# Altium schematic symbol library Schlib_Minicircuits.SchLib: 27 symbols
Pins are listed as number, name and electrical type; pins without a type are passive.

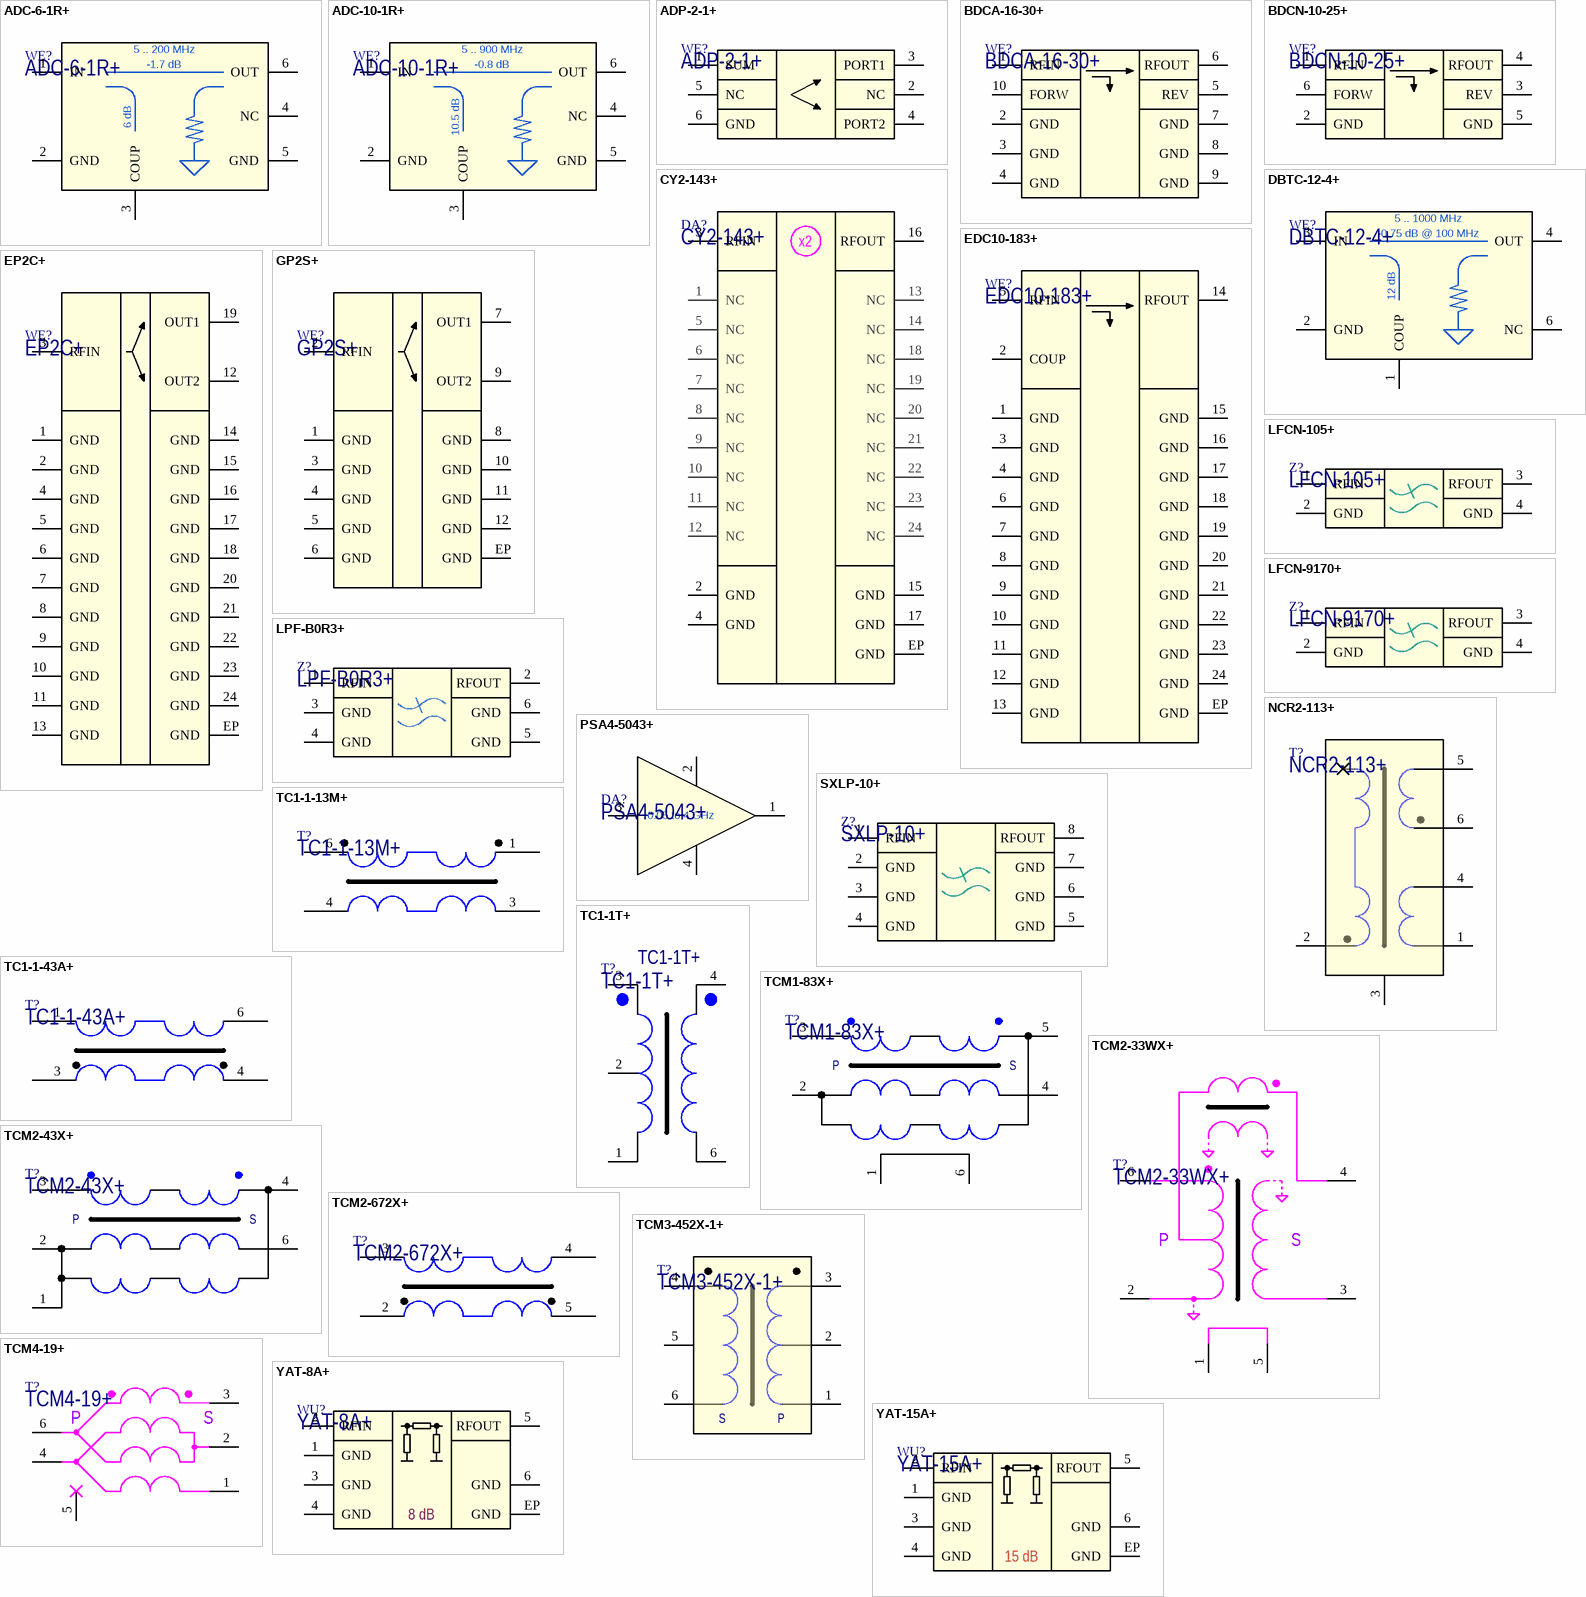
[diagram p0: symbols ADC-6-1R+ to YAT-15A+]

## ADC-6-1R+
designator WE?
50Ω Bi-Directional Coupler 5 to 200 MHz; Manufacturer: Mini-Circuits; Part Number: ADC-6-1R+; Package: CD542
footprint CD542
pins: 1 IN, 2 GND, 3 COUP, 4 NC (hiz), 5 GND, 6 OUT
text: 5 .. 200 MHz; -1.7 dB; 6 dB

## ADC-10-1R+
designator WE?
50Ω Bi-Directional Coupler 5 to 900 MHz; Manufacturer: Mini-Circuits; Part Number: ADC-10-1R+; Package: CD542
footprint CD542
pins: 1 IN, 2 GND, 3 COUP, 4 NC (hiz), 5 GND, 6 OUT
text: 5 .. 900 MHz; -0.8 dB; 10.5 dB

## ADP-2-1+
designator WE?
50Ω Power Splitter/Combiner 0.5 to 400 MHz; Manufacturer: Mini-Circuits; Part Number: ADP-2-1+; Package: CD636
pins: 1 SUM, 2 NC, 3 PORT1, 4 PORT2, 5 NC, 6 GND (power)

## BDCA-16-30+
designator WE?
50Ω 16dB Coupling DC Pass 1800 to 4200 MHz; Manufacturer: Mini-Circuits; Part Number: BDCA-16-30+; Package: DZ944
footprint DZ944
pins: 1 RFIN, 2 GND (power), 3 GND (power), 4 GND (power), 5 REV, 6 RFOUT, 7 GND (power), 8 GND (power), 9 GND (power), 10 FORW

## BDCN-10-25+
designator WE?
50Ω Bi-Directional Coupler 824 to 2525 MHz; Manufacturer: Mini-Circuits; Part Number: BDCN-10-25+; Package: FV1206-1
footprint FV1206-1
pins: 1 RFIN, 2 GND (power), 3 REV, 4 RFOUT, 5 GND (power), 6 FORW

## CY2-143+
designator DA?
4 to 14 GHz MMIC Surface Mount Frequency Multiplier x2 50Ω Output; Manufacturer: Mini-Circuits; Part Number: CY2-143+; Package: DG1847
footprint DG1847
pins: 1 NC (hiz), 2 GND (power), 3 RFIN, 4 GND (power), 5 NC (hiz), 6 NC (hiz), 7 NC (hiz), 8 NC (hiz), 9 NC (hiz), 10 NC (hiz), 11 NC (hiz), 12 NC (hiz), 13 NC (hiz), 14 NC (hiz), 15 GND (power), 16 RFOUT, 17 GND (power), 18 NC (hiz), 19 NC (hiz), 20 NC (hiz), 21 NC (hiz), 22 NC (hiz), 23 NC (hiz), 24 NC (hiz), EP GND (power)
text: x2

## DBTC-12-4+
designator WE?
50Ω 12dB coupling 5 to 1000 MHz; Manufacturer: Mini-Circuits; Part Number: DBTC-12-4+; Package: AT790-1
footprint AT790-1 (Minicircuits AT790-1 case style)
pins: 1 COUP, 2 GND (power), 3 IN, 4 OUT, 6 NC (hiz)
text: 5 .. 1000 MHz; -0.75 dB @ 100 MHz; 12 dB

## EDC10-183+
designator WE?
50Ω 10dB MMIC Surface Mount Directional Coupler 6 to 18 GHzvvvvvv; Manufacturer: Mini-Circuits; Part Number: EDC10-183+; Package: DG1847
footprint DG1847
pins: 1 GND (power), 2 COUP, 3 GND (power), 4 GND (power), 5 RFIN, 6 GND (power), 7 GND (power), 8 GND (power), 9 GND (power), 10 GND (power), 11 GND (power), 12 GND (power), 13 GND (power), 14 RFOUT, 15 GND (power), 16 GND (power), 17 GND (power), 18 GND (power), 19 GND (power), 20 GND (power), 21 GND (power), 22 GND (power), 23 GND (power), 24 GND (power), EP GND (power)

## EP2C+
designator WE?
2 Way-0° 50Ω Power Splitter/Combiner  1800 to 12500 MHz; Manufacturer: Mini-Circuits; Part Number: EP2C+; Package: DG1847
footprint DG1847
pins: 1 GND (power), 2 GND (power), 3 RFIN, 4 GND (power), 5 GND (power), 6 GND (power), 7 GND (power), 8 GND (power), 9 GND (power), 10 GND (power), 11 GND (power), 12 OUT2, 13 GND (power), 14 GND (power), 15 GND (power), 16 GND (power), 17 GND (power), 18 GND (power), 19 OUT1, 20 GND (power), 21 GND (power), 22 GND (power), 23 GND (power), 24 GND (power), EP GND (power)

## GP2S+
designator WE?
2 Way-0° 50Ω Power Splitter/Combiner  800 to 2100 MHz; Manufacturer: Mini-Circuits; Part Number: GP2S+; Package: DQ1225
footprint DQ1225
pins: 1 GND (power), 2 RFIN, 3 GND (power), 4 GND (power), 5 GND (power), 6 GND (power), 7 OUT1, 8 GND (power), 9 OUT2, 10 GND (power), 11 GND (power), 12 GND (power), EP GND (power)

## LFCN-105+
designator Z?
Low Pass Filter 50Ω DC to 105 MHz; Manufacturer: Mini-Circuits; Part Number: LFCN-105+; Package: FV1206
footprint FV1206
pins: 1 RFIN, 2 GND (power), 3 RFOUT, 4 GND (power)

## LFCN-9170+
designator Z?
Low Pass Filter 50Ω DC to 9170 MHz; Manufacturer: Mini-Circuits; Part Number: LFCN-9170+; Package: FV1206-4
footprint FV1206-4
pins: 1 RFIN, 2 GND (power), 3 RFOUT, 4 GND (power)

## LPF-B0R3+
designator Z?
Low Pass Filter 50Ω DC to 0.3 MHz; Manufacturer: Mini-Circuits; Part Number: LPF-B0R3+; Package: HZ1198
footprint HZ1198 (Mini-Circuits CASE STYLE: HZ1198)
pins: 1 RFIN, 2 RFOUT, 3 GND (power), 4 GND (power), 5 GND (power), 6 GND (power)

## NCR2-113+
designator T?
50Ω Ceramic Balun 3500 to 11000 MHz; Manufacturer: Mini-Circuits; Case style: NF1846-1; Part Number: NCR2-113+
footprint NF1846-1 (Minicircuits NF1846-1 case style)
pins: 1 GND, 2 PrimaryDot, 3 GND, 4 Secondary, 5 GND, 6 SecondaryDot

## PSA4-5043+
designator DA?
50Ω Monolithic Amplifier 0.05 to 4 GHz; Manufacturer: Mini-Circuits; Part Number: PSA4-5043+; Package: MMM1362
footprint MMM1362 (Case style MMM1362)
pins: 1 OUT, 2 GND, 3 IN, 4 GND
text: 0.05 to 4 GHz

## SXLP-10+
designator Z?
Low Pass Filter 50Ω DC to 10 MHz; Manufacturer: Mini-Circuits; Part Number: SXLP-10+; Package: HF1139
footprint HF1139 (Mini-Circuits CASE STYLE: HF1139)
pins: 1 RFIN, 2 GND (power), 3 GND (power), 4 GND (power), 5 GND (power), 6 GND (power), 7 GND (power), 8 RFOUT

## TC1-1-13M+
designator T?
50Ω RF Transformer 4.5 to 3000 MHz; Manufacturer: Mini-Circuits; Part Number: TC1-1-13M+; Package: AT224-1A
footprint AT224-1A (Minicircuits AT224-1A case style)
pins: 1 SecondaryDot, 3 Secondary, 4 Primary, 6 PrimaryDot

## TC1-1-43A+
designator T?
50Ω RF Transformer 650 to 4000 MHz; Manufacturer: Mini-Circuits; Part Number: TC1-1-43A+; Package: AT224-1A
footprint AT224-1A (Minicircuits AT224-1A case style)
pins: 1, 3, 4, 6

## TC1-1T+
designator T?
50Ω RF Transformer 0.4 to 500 MHz; Manufacturer: Mini-Circuits; Package: AT224-1A; Part Number: TC1-1T+
footprint AT224-1A (Minicircuits AT224-1A case style)
pins: 1 PRIn, 2 Centr, 3 PRIp, 4 SECp, 6 SECn

## TCM1-83X+
designator T?
50Ω RF Transformer 10 to 8000 MHz; Manufacturer: Mini-Circuits; Part Number: TCM1-83X+
footprint DB1627 (Minicircuits DB1627 case style)
pins: 1 NotUsed, 2 Primary, 3 PrimaryDot, 4 Secondary, 5 SecondaryDot, 6 NotUsed
text: P; S

## TCM2-33WX+
designator T?
50Ω RF Transformer 10 to 3000 MHz; Manufacturer: Mini-Circuits; Part Number: TCM2-33WX+
footprint DB1627 (Minicircuits DB1627 case style)
pins: 1 NotUsed, 2 Primary, 3 Secondary, 4 SecondaryDot, 5 GND, 6 PrimaryDot
text: P; S

## TCM2-43X+
designator T?
50Ω RF Transformer 10 to 4000 MHz; Manufacturer: Mini-Circuits; Part Number: TCM2-43X+
footprint DB1627 (Minicircuits DB1627 case style)
pins: 1 Primary, 2 GND_RF, 3 PrimaryDot, 4 SecondaryDot, 6 Secondary
text: P; S

## TCM2-672X+
designator T?
50Ω RF Transformer 1700 to 6000 MHz; Manufacturer: Mini-Circuits; Case style: DB1627; Part Number: TCM2-672X+; Package: AT224-1A
pins: 2, 3, 4, 5

## TCM3-452X-1+
designator T?
50Ω RF Transformer 20 to 4000 MHz; Manufacturer: Mini-Circuits; Part Number: TCM3-452X-1+
pins: 1 Primary, 2 GND_RF, 3 PrimaryDot, 4 SecondaryDot, 5 GND_RF, 6 Secondary
text: S; P

## TCM4-19+
designator T?
50Ω RF Transformer 10 to 1900 MHz; Manufacturer: Mini-Circuits; Part Number: TCM4-19+
footprint DB714 (Minicircuits DB714 case style)
pins: 1 Secondary, 2 SecondaryCT, 3 SecondaryDot, 4 Primary, 5 NotUsed, 6 PrimaryDot
text: P; S

## YAT-8A+
designator WU?
8 dB SMT Fixed Attenuator, DC - 18000 MHz, 50Ω; Manufacturer: Mini-Circuits; Part Number: YAT-8A+; Package: MC1630-1
footprint MC1630-1
pins: 1 GND (power), 2 RFIN, 3 GND (power), 4 GND (power), 5 RFOUT, 6 GND (power), EP GND (power)
text: 8 dB

## YAT-15A+
designator WU?
15 dB SMT Fixed Attenuator, DC - 18000 MHz, 50Ω; Manufacturer: Mini-Circuits; Part Number: YAT-15A+; Package: MC1630-1
footprint MC1630-1
pins: 1 GND (power), 2 RFIN, 3 GND (power), 4 GND (power), 5 RFOUT, 6 GND (power), EP GND (power)
text: 15 dB